# Altium integrated library W5500.IntLib: 1 symbol
Pins are listed as number, name and electrical type; pins without a type are passive.

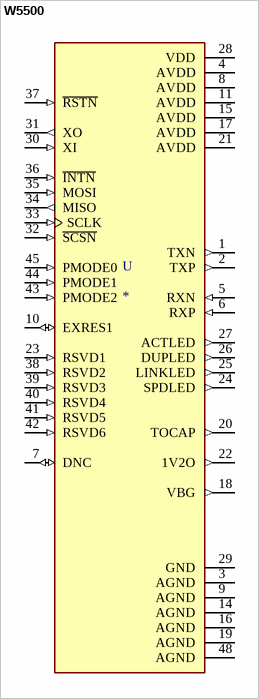
[diagram p0: symbol W5500]

## W5500
designator U
Socket Contact Silver 17-20 AWG Crimp Power; MP: W5500; MF: WIZnet; Price: None; Package: LQFP-48 WIZnet; Value: *; Availability: Unavailable; SnapEDA_Link: https://www.snapeda.com/parts/W5500/WIZnet/view-part/45250/?ref=snap
footprint QFP50P900X900X160-48N
pins: 1 TXN (out), 2 TXP (out), 3 AGND (power), 4 AVDD (power), 5 RXN (in), 6 RXP (in), 7 DNC (io), 8 AVDD (power), 9 AGND (power), 10 EXRES1 (io), 11 AVDD (power), 14 AGND (power), 15 AVDD (power), 16 AGND (power), 17 AVDD (power), 18 VBG (out), 19 AGND (power), 20 TOCAP (out), 21 AVDD (power), 22 1V2O (out), 23 RSVD1 (in), 24 SPDLED (out), 25 LINKLED (out), 26 DUPLED (out), 27 ACTLED (out), 28 VDD (power), 29 GND, 30 XI (in), 31 XO (out), 32 ~{SCSN} (in), 33 SCLK (in), 34 MISO (out), 35 MOSI (in), 36 ~{INTN} (in), 37 ~{RSTN} (in), 38 RSVD2 (in), 39 RSVD3 (in), 40 RSVD4 (in), 41 RSVD5 (in), 42 RSVD6 (in), 43 PMODE2 (in), 44 PMODE1 (in), 45 PMODE0 (in), 48 AGND (power)